# EAGLE library part MKV31F512VLH12 (library MKV31F512VLH12)
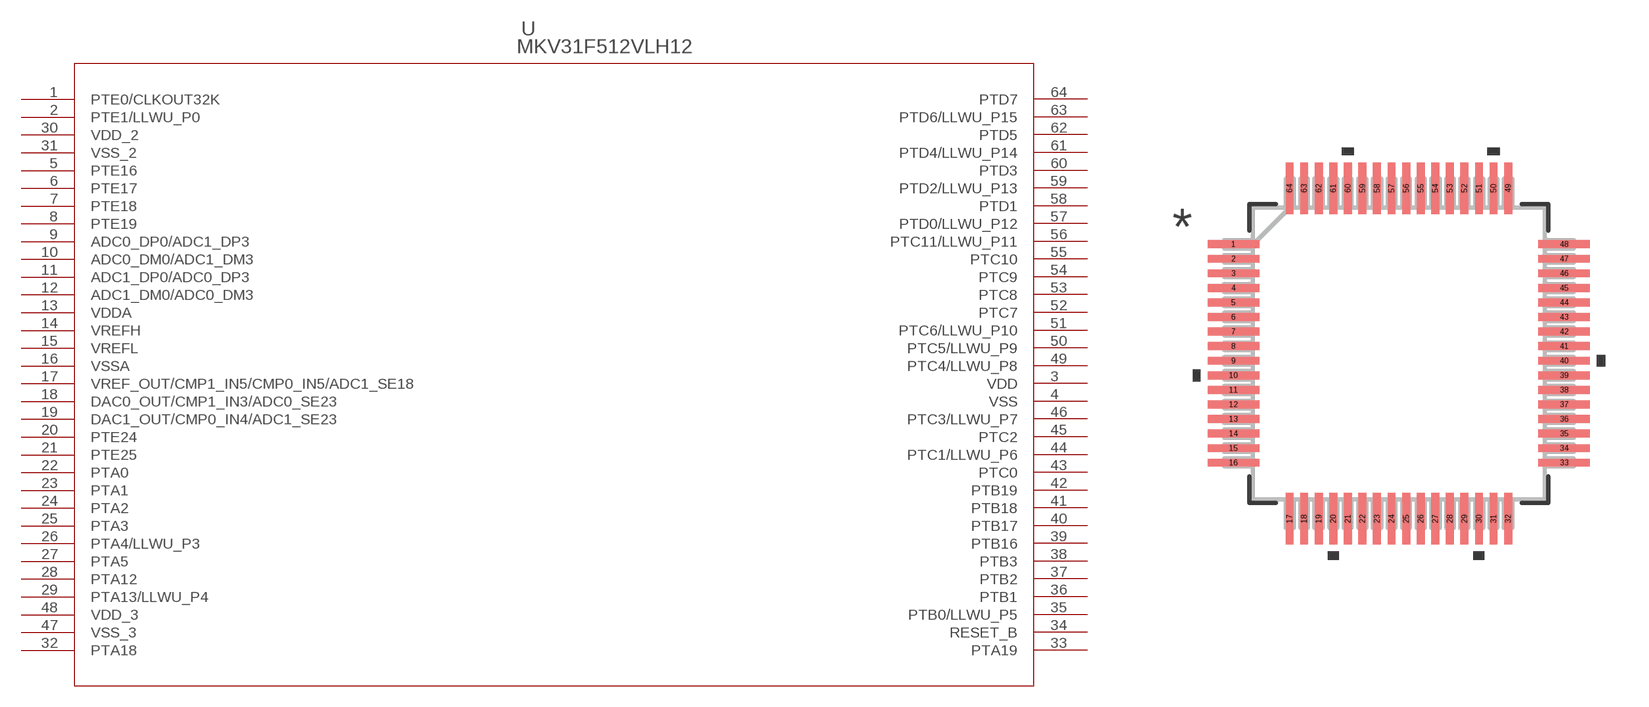
[diagram p0: symbol with the pads of LQFP-64_10X10X1_6-M; footprint LQFP-64_10X10X1_6-M]

Designator prefix U

## MKV31F512VLH12-M  [LQFP-64_10X10X1_6-M]
1  PTE0/CLKOUT32K
2  PTE1/LLWU_P0
3  VDD  pwr
4  VSS  pwr
5  PTE16
6  PTE17
7  PTE18
8  PTE19
9  ADC0_DP0/ADC1_DP3
10  ADC0_DM0/ADC1_DM3
11  ADC1_DP0/ADC0_DP3
12  ADC1_DM0/ADC0_DM3
13  VDDA  pwr
14  VREFH  pwr
15  VREFL  pwr
16  VSSA  pwr
17  VREF_OUT/CMP1_IN5/CMP0_IN5/ADC1_SE18
18  DAC0_OUT/CMP1_IN3/ADC0_SE23
19  DAC1_OUT/CMP0_IN4/ADC1_SE23
20  PTE24
21  PTE25
22  PTA0
23  PTA1
24  PTA2
25  PTA3
26  PTA4/LLWU_P3
27  PTA5
28  PTA12
29  PTA13/LLWU_P4
30  VDD_2  pwr
31  VSS_2  pwr
32  PTA18
33  PTA19
34  RESET_B  pas
35  PTB0/LLWU_P5
36  PTB1
37  PTB2
38  PTB3
39  PTB16
40  PTB17
41  PTB18
42  PTB19
43  PTC0
44  PTC1/LLWU_P6
45  PTC2
46  PTC3/LLWU_P7
47  VSS_3  pwr
48  VDD_3  pwr
49  PTC4/LLWU_P8
50  PTC5/LLWU_P9
51  PTC6/LLWU_P10
52  PTC7
53  PTC8
54  PTC9
55  PTC10
56  PTC11/LLWU_P11
57  PTD0/LLWU_P12
58  PTD1
59  PTD2/LLWU_P13
60  PTD3
61  PTD4/LLWU_P14
62  PTD5
63  PTD6/LLWU_P15
64  PTD7

## Footprint LQFP-64_10X10X1_6-M (pad centres in mm)
smd 1.766 x 0.27: 1 -5.676,3.75; 2 -5.676,3.25; 3 -5.676,2.75; 4 -5.676,2.25; 5 -5.676,1.75; 6 -5.676,1.25; 7 -5.676,0.75; 8 -5.676,0.25; 9 -5.676,-0.25; 10 -5.676,-0.75; 11 -5.676,-1.25; 12 -5.676,-1.75; 13 -5.676,-2.25; 14 -5.676,-2.75; 15 -5.676,-3.25; 16 -5.676,-3.75; 33 5.676,-3.75; 34 5.676,-3.25; 35 5.676,-2.75; 36 5.676,-2.25; 37 5.676,-1.75; 38 5.676,-1.25; 39 5.676,-0.75; 40 5.676,-0.25; 41 5.676,0.25; 42 5.676,0.75; 43 5.676,1.25; 44 5.676,1.75; 45 5.676,2.25; 46 5.676,2.75; 47 5.676,3.25; 48 5.676,3.75
smd 0.27 x 1.766: 17 -3.75,-5.676; 18 -3.25,-5.676; 19 -2.75,-5.676; 20 -2.25,-5.676; 21 -1.75,-5.676; 22 -1.25,-5.676; 23 -0.75,-5.676; 24 -0.25,-5.676; 25 0.25,-5.676; 26 0.75,-5.676; 27 1.25,-5.676; 28 1.75,-5.676; 29 2.25,-5.676; 30 2.75,-5.676; 31 3.25,-5.676; 32 3.75,-5.676; 49 3.75,5.676; 50 3.25,5.676; 51 2.75,5.676; 52 2.25,5.676; 53 1.75,5.676; 54 1.25,5.676; 55 0.75,5.676; 56 0.25,5.676; 57 -0.25,5.676; 58 -0.75,5.676; 59 -1.25,5.676; 60 -1.75,5.676; 61 -2.25,5.676; 62 -2.75,5.676; 63 -3.25,5.676; 64 -3.75,5.676